# Altium footprint library PcbLib1.PcbLib: 14 footprints
Each footprint in its own frame and in the unit in brackets; x right, y up, seen from the top. Pads: shape width x height; smd on the part's side, far side on the other; paste and mask are expansions set on the pad; w line width, h text height; cw(c..) or ccw(c..) is an arc to the next point about the centre after c.
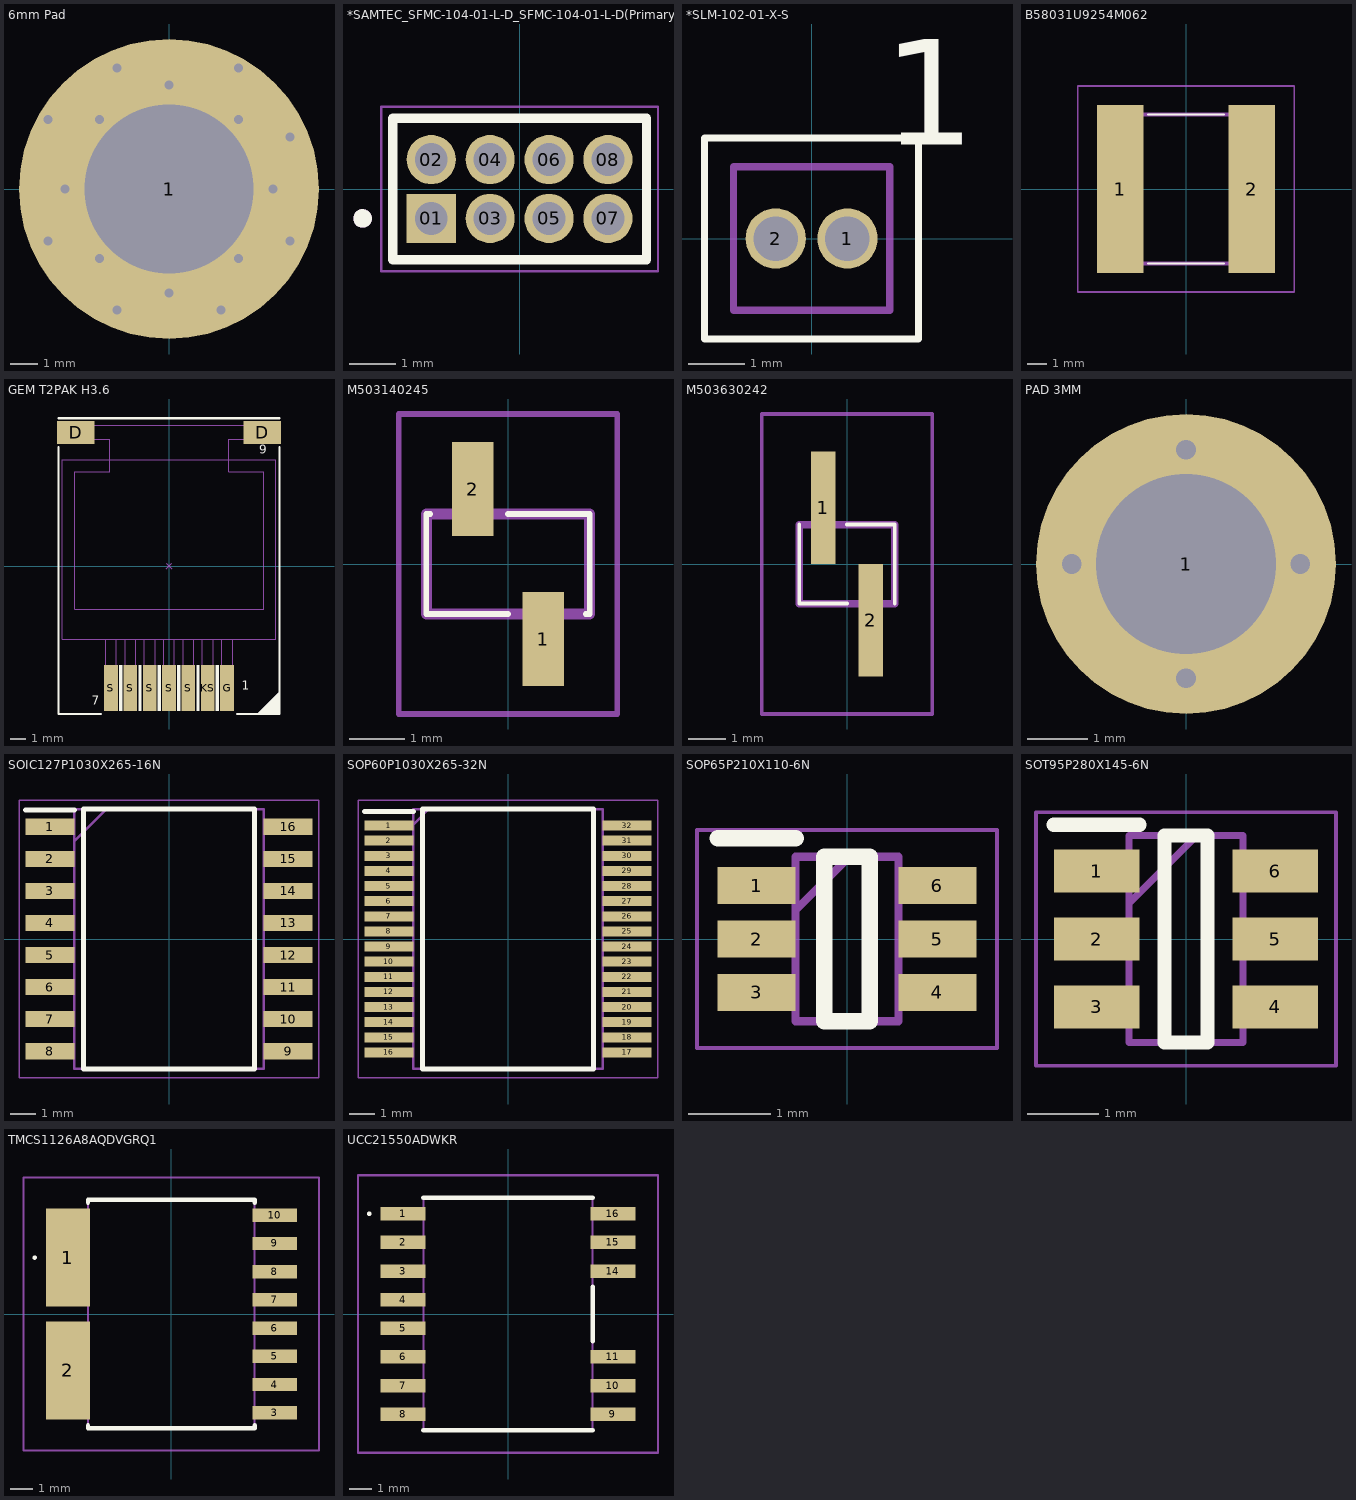
[diagram p0: the footprints below, top view; thin cyan lines are the x and y axes]

## 6mm Pad [mm]
pads (1):
  round 11 hole 6.2 paste+0 mask+0.2: 1(0,0)
via -4.445,2.54 diameter 0.635 hole 0.33
via -4.445,-1.905 diameter 0.635 hole 0.33
via -1.905,-4.445 diameter 0.635 hole 0.33
via 1.905,-4.445 diameter 0.635 hole 0.33
via 4.445,-1.905 diameter 0.635 hole 0.33
via 4.445,1.905 diameter 0.635 hole 0.33
via 2.54,4.445 diameter 0.635 hole 0.33
via -1.905,4.445 diameter 0.635 hole 0.33
via 0,3.81 diameter 0.635 hole 0.33
via 2.54,2.54 diameter 0.635 hole 0.33
via 3.81,0 diameter 0.635 hole 0.33
via 2.54,-2.54 diameter 0.635 hole 0.33
via 0,-3.81 diameter 0.635 hole 0.33
via -2.54,-2.54 diameter 0.635 hole 0.33
via -3.81,0 diameter 0.635 hole 0.33
via -2.54,2.54 diameter 0.635 hole 0.33

## *SAMTEC_SFMC-104-01-L-D_SFMC-104-01-L-D(Primary) [mm]
pads (8):
  rect 1.06x1.06 hole 0.71: 01(-1.905,-0.635)
  round 1.06 hole 0.71: 02(-1.905,0.635) 03(-0.635,-0.635) 04(-0.635,0.635) 05(0.635,-0.635) 06(0.635,0.635) 07(1.905,-0.635) 08(1.905,0.635)
Top Overlay:
  circle w0.2: c-3.385,-0.635 r0.1
  lines w0.2: -2.735,-1.525 -2.735,1.525 2.735,1.525 2.735,-1.525 -2.735,-1.525
Mechanical 4:
  circle w0.2: c-3.385,-0.635 r0.1
  circle w0.2: c-3.385,-0.635 r0.1
  lines w0.1: -2.735,-1.525 -2.735,1.525 ; -2.735,-1.525 2.735,-1.525 ; -2.735,-1.525 -2.735,1.525 ; -2.735,-1.525 -2.735,1.525 ; -2.735,-1.525 2.735,-1.525 ; -2.735,-1.525 -2.735,1.525 ; -2.735,1.525 2.735,1.525 ; -2.735,1.525 2.735,1.525 ; -2.735,1.525 2.735,1.525 ; -2.735,1.525 2.735,1.525 ; 2.735,-1.525 2.735,1.525 ; 2.735,-1.525 2.735,1.525 ; 2.735,-1.525 2.735,1.525 ; 2.735,-1.525 2.735,1.525
Mechanical 16:
  lines w0.05: -2.985,-1.775 -2.985,1.775 2.985,1.775 2.985,-1.775 -2.985,-1.775
3D body "SFMC-104-01-L-D-K.stp": height 4.7, standoff -3.05, extent -2.73,-1.991 2.73,1.991

## *SLM-102-01-X-S [mil]
pads (2):
  round 42 hole 31: 1(25,0) 2(-25,0)
Top Overlay:
  lines w5: -74.5,-70 74.5,-70 74.5,70 -74.5,70 -74.5,-70
  text "1" at 50.02,65.19 h73.82
Mechanical 4:
  lines w5: -54.5,-50 54.5,-50 ; -54.5,-50 -54.5,50 ; -54.5,-50 54.5,-50 ; -54.5,-50 -54.5,50 ; -54.5,50 54.5,50 ; -54.5,50 54.5,50 ; 54.5,-50 54.5,50 ; 54.5,-50 54.5,50
3D body "SLM-102-01-G-S.stp": height 180, standoff -114.93, extent -54.5,-50 54.5,50

## B58031U9254M062 [mm]
pads (2):
  rect 2.45x8.85 smd mask+0.102: 1(-3.475,0) 2(3.475,0)
Top Overlay:
  lines w0.1: -2,-3.925 2,-3.925 ; -2,3.925 2,3.925
Mechanical 13:
  lines w0.2: -3.57,-3.925 3.57,-3.925 3.57,3.925 -3.57,3.925 -3.57,-3.925
Mechanical 15:
  lines w0.1: -5.7,-5.425 5.7,-5.425 5.7,5.425 -5.7,5.425 -5.7,-5.425
3D body "B58031U9254M062.stp": height 4, standoff 0, extent -3.57,-3.925 3.57,3.925

## GEM T2PAK H3.6 [mm]
height 3.6
pads (9):
  rect 2.45x1.5 smd mask+0.01: D(-6.125,8.75) D(6.125,8.75)
  rect 0.9x3 smd mask+0.01: G(3.81,-8) KS(2.54,-8) S(-3.81,-8) S(-2.54,-8) S(-1.27,-8) S(0,-8) S(1.27,-8)
Top Overlay:
  rectangle: -3.285,-9.5 -3.065,-6.5
  rectangle: -2.015,-9.5 -1.795,-6.5
  rectangle: -0.745,-9.5 -0.525,-6.5
  rectangle: 0.525,-9.5 0.745,-6.5
  rectangle: 1.795,-9.5 2.015,-6.5
  rectangle: 3.065,-9.5 3.285,-6.5
  region: 5.75,-9.7 7.25,-8.2 7.25,-9.7
  lines w0.15: -7.25,7.8 -7.25,-9.7 -4.46,-9.7 ; -7.25,9.7 7.25,9.7 ; 4.46,-9.7 7.25,-9.7 7.25,7.8
  text "1" at 4.76,-8.321 h1
  text "7" at -5.074,-9.28 h1
  text "9" at 5.912,7.159 h1
Top 3D Body:
  lines w0.02: -4.155,-4.812 -4.155,-9.25 -3.455,-9.25 -3.455,-4.812 ; -3.895,7.254 -3.895,6.179 ; -2.885,-4.812 -2.885,-9.25 -2.185,-9.25 -2.185,-4.812 ; -1.615,-4.812 -1.615,-9.25 -0.915,-9.25 -0.915,-4.812 ; -0.345,-4.812 -0.345,-9.25 0.355,-9.25 0.355,-4.812 ; -0.177,-0.177 0.177,0.177 ; -0.177,0.177 0.177,-0.177 ; 0.925,-4.812 0.925,-9.25 1.625,-9.25 1.625,-4.812 ; 2.195,-4.812 2.195,-9.25 2.895,-9.25 2.895,-4.812 ; 3.465,-4.812 3.465,-9.25 4.165,-9.25 4.165,-4.812 ; -3.895,6.179 -6.195,6.179 -6.195,-2.821 6.205,-2.821 6.205,6.179 3.905,6.179 3.905,8.329 7.005,8.329 7.005,9.229 -6.995,9.229 -6.995,8.329 -3.895,8.329 -3.895,6.179 ; -7,-4.812 -7,6.987 7,6.987 7,-4.812 -7,-4.812
3D body "NVTS HV-T2PAK.stp": height 3.56, standoff -0.07, extent -6.985,-9.398 7.015,9.182

## M503140245 [mm]
pads (2):
  rect 0.74x1.7 smd: 1(0.635,-1.35) 2(-0.635,1.35)
Top Overlay:
  lines w0.1: -1.4,0.9 -1.47,0.9 -1.47,-0.9 0,-0.9 ; 0,0.9 1.47,0.9 1.47,-0.9 1.4,-0.9
Mechanical 13:
  lines w0.2: -1.47,-0.9 1.47,-0.9 1.47,0.9 -1.47,0.9 -1.47,-0.9
Mechanical 15:
  lines w0.1: -1.97,-2.7 1.97,-2.7 1.97,2.7 -1.97,2.7 -1.97,-2.7
3D body "M50-3140245.stp": height 3.6, standoff 0, extent -1.47,-1.598 1.47,1.598

## M503630242 [mm]
pads (2):
  rect 0.65x3 smd: 1(-0.635,1.5) 2(0.635,-1.5)
Top Overlay:
  lines w0.1: -1.27,1.05 -1.27,-1.055 0,-1.055 ; 0,1.05 1.27,1.05 1.27,-1.055
Mechanical 13:
  lines w0.2: -1.27,-1.055 1.27,-1.055 1.27,1.05 -1.27,1.05 -1.27,-1.055
Mechanical 15:
  lines w0.1: -2.27,-4 2.27,-4 2.27,4 -2.27,4 -2.27,-4
3D body "M50-3630242.stp": height 4.5, standoff 0, extent -1.27,-2.5 1.27,2.5

## PAD 3MM [mm]
pads (1):
  round 5 hole 3 paste+0 mask+0.2: 1(0,0)
via 0,-1.905 diameter 0.635 hole 0.33
via 0,1.905 diameter 0.635 hole 0.33
via 1.905,0 diameter 0.635 hole 0.33
via -1.905,0 diameter 0.635 hole 0.33

## SOIC127P1030X265-16N [mm]
pads (16):
  rect 1.95x0.65 smd: 1(-4.725,4.445) 2(-4.725,3.175) 3(-4.725,1.905) 4(-4.725,0.635) 5(-4.725,-0.635) 6(-4.725,-1.905) 7(-4.725,-3.175) 8(-4.725,-4.445) 9(4.725,-4.445) 10(4.725,-3.175) 11(4.725,-1.905) 12(4.725,-0.635) 13(4.725,0.635) 14(4.725,1.905) 15(4.725,3.175) 16(4.725,4.445)
Top Overlay:
  lines w0.2: -5.7,5.12 -3.75,5.12 ; -3.4,-5.15 -3.4,5.15 3.4,5.15 3.4,-5.15 -3.4,-5.15
Mechanical 13:
  lines w0.1: -3.75,3.88 -2.48,5.15 ; -3.75,-5.15 -3.75,5.15 3.75,5.15 3.75,-5.15 -3.75,-5.15
Mechanical 15:
  lines w0.05: -5.95,-5.5 -5.95,5.5 5.95,5.5 5.95,-5.5 -5.95,-5.5
3D body "PAMC3311QDWERQ1.stp": height 2.59, standoff 0, extent -5.167,-5.15 5.167,5.15

## SOP60P1030X265-32N [mm]
pads (32):
  rect 1.95x0.4 smd: 1(-4.725,4.5) 2(-4.725,3.9) 3(-4.725,3.3) 4(-4.725,2.7) 5(-4.725,2.1) 6(-4.725,1.5) 7(-4.725,0.9) 8(-4.725,0.3) 9(-4.725,-0.3) 10(-4.725,-0.9) 11(-4.725,-1.5) 12(-4.725,-2.1) 13(-4.725,-2.7) 14(-4.725,-3.3) 15(-4.725,-3.9) 16(-4.725,-4.5) 17(4.725,-4.5) 18(4.725,-3.9) 19(4.725,-3.3) 20(4.725,-2.7) 21(4.725,-2.1) 22(4.725,-1.5) 23(4.725,-0.9) 24(4.725,-0.3) 25(4.725,0.3) 26(4.725,0.9) 27(4.725,1.5) 28(4.725,2.1) 29(4.725,2.7) 30(4.725,3.3) 31(4.725,3.9) 32(4.725,4.5)
Top Overlay:
  lines w0.2: -5.7,5.05 -3.75,5.05 ; -3.4,-5.15 3.4,-5.15 3.4,5.15 -3.4,5.15 -3.4,-5.15
Mechanical 13:
  lines w0.1: -3.75,4.55 -3.15,5.15 ; -3.75,-5.15 3.75,-5.15 3.75,5.15 -3.75,5.15 -3.75,-5.15
Mechanical 15:
  lines w0.05: -5.95,-5.5 5.95,-5.5 5.95,5.5 -5.95,5.5 -5.95,-5.5
3D body "UCC5880QDFCRQ1.stp": height 2.65, standoff 0, extent -5.15,-5.15 5.15,5.15

## SOP65P210X110-6N [mm]
pads (6):
  rect 0.95x0.45 smd: 1(-1.1,0.65) 2(-1.1,0) 3(-1.1,-0.65) 4(1.1,-0.65) 5(1.1,0) 6(1.1,0.65)
Top Overlay:
  lines w0.2: -1.575,1.225 -0.625,1.225 ; -0.275,-1 -0.275,1 0.275,1 0.275,-1 -0.275,-1
Mechanical 13:
  lines w0.1: -0.625,0.35 0.025,1 ; -0.625,-1 -0.625,1 0.625,1 0.625,-1 -0.625,-1
Mechanical 15:
  lines w0.05: -1.825,-1.325 -1.825,1.325 1.825,1.325 1.825,-1.325 -1.825,-1.325
3D body "SN74LVC1G175DCKR.stp": height 1.1, standoff 0, extent -1.05,-1 1.05,1

## SOT95P280X145-6N [mm]
pads (6):
  rect 1.2x0.6 smd: 1(-1.25,0.95) 2(-1.25,0) 3(-1.25,-0.95) 4(1.25,-0.95) 5(1.25,0) 6(1.25,0.95)
Top Overlay:
  lines w0.2: -1.85,1.6 -0.65,1.6 ; -0.3,-1.45 -0.3,1.45 0.3,1.45 0.3,-1.45 -0.3,-1.45
Mechanical 13:
  lines w0.1: -0.8,0.5 0.15,1.45 ; -0.8,-1.45 -0.8,1.45 0.8,1.45 0.8,-1.45 -0.8,-1.45
Mechanical 15:
  lines w0.05: -2.1,-1.775 -2.1,1.775 2.1,1.775 2.1,-1.775 -2.1,-1.775
3D body "ADC121S051CIMF.stp": height 1.2, standoff 0, extent -1.4,-1.45 1.4,1.45

## TMCS1126A8AQDVGRQ1 [mm]
pads (10):
  rect 2x4.41 smd: 1(-4.65,2.54) 2(-4.65,-2.54)
  rect 2x0.6 smd: 3(4.65,-4.445) 4(4.65,-3.175) 5(4.65,-1.905) 6(4.65,-0.635) 7(4.65,0.635) 8(4.65,1.905) 9(4.65,3.175) 10(4.65,4.445)
Top Overlay:
  lines w0.1: -6.2,2.54 ccw(c-6.15,2.54) -6.1,2.54 ccw(c-6.15,2.54) -6.2,2.54
  lines w0.2: -3.75,-5 -3.75,-5.15 3.75,-5.15 3.75,-5 ; -3.75,5 -3.75,5.15 3.75,5.15 3.75,5
Mechanical 13:
  lines w0.1: -3.75,-5.15 -3.75,5.15 3.75,5.15 3.75,-5.15 -3.75,-5.15
Mechanical 15:
  lines w0.1: -6.65,-6.15 -6.65,6.15 6.65,6.15 6.65,-6.15 -6.65,-6.15
3D body "TMCS1126A8AQDVGRQ1.stp": height 2.75, standoff 0, extent -3.75,-5.15 3.75,5.15

## UCC21550ADWKR [mm]
pads (14):
  rect 2x0.6 smd: 1(-4.65,4.445) 2(-4.65,3.175) 3(-4.65,1.905) 4(-4.65,0.635) 5(-4.65,-0.635) 6(-4.65,-1.905) 7(-4.65,-3.175) 8(-4.65,-4.445) 9(4.65,-4.445) 10(4.65,-3.175) 11(4.65,-1.905) 14(4.65,1.905) 15(4.65,3.175) 16(4.65,4.445)
Top Overlay:
  lines w0.1: -6.2,4.445 ccw(c-6.15,4.445) -6.1,4.445 ccw(c-6.15,4.445) -6.2,4.445
  lines w0.2: -3.75,-5.15 3.75,-5.15 ; -3.75,5.15 3.75,5.15 ; 3.75,-1.2 3.75,1.2
Mechanical 13:
  lines w0.1: -3.75,-5.15 -3.75,5.15 3.75,5.15 3.75,-5.15 -3.75,-5.15
Mechanical 15:
  lines w0.1: -6.65,-6.15 -6.65,6.15 6.65,6.15 6.65,-6.15 -6.65,-6.15
3D body "UCC21550ADWKR.stp": height 2.75, standoff 0, extent -3.75,-5.15 3.75,5.15